# Altium schematic symbol library 5.1 - 接插件-脚距1.27.SchLib: 7 symbols
Pins are listed as number, name and electrical type; pins without a type are passive.

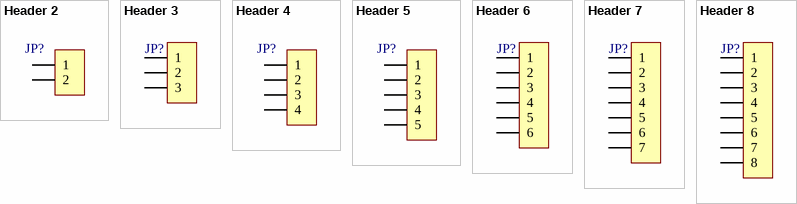
[diagram p0: symbols Header 2 to Header 8]

## Header 2
designator JP?, comment HDR-1X2  (value not drawn)
2P接插件; 封装库来自淘宝卖家 ID：黄晶宝石: 其他店铺购入均为盗版，不享受售后技术支持服务，请立即申请退款
footprint HDR1.27-LI-2P (直插，脚距：1.27mm)
footprint HDR1.27-M-LI-2P (直插，脚距：1.27mm)
pins: 1, 2

## Header 3
designator JP?, comment HDR-1X3  (value not drawn)
3P接插件; 封装库来自淘宝卖家 ID：黄晶宝石: 其他店铺购入均为盗版，不享受售后技术支持服务，请立即申请退款
footprint HDR1.27-LI-3P (直插，脚距：1.27mm)
footprint HDR1.27-M-LI-3P (直插，脚距：1.27mm)
pins: 1, 2, 3

## Header 4
designator JP?, comment HDR-1X4  (value not drawn)
4P接插件; 封装库来自淘宝卖家 ID：黄晶宝石: https://shop463601444.taobao.com
footprint HDR1.27-LI-4P (直插，脚距：1.27mm)
footprint HDR1.27-M-LI-4P (直插，脚距：1.27mm)
pins: 1, 2, 3, 4

## Header 5
designator JP?, comment HDR-1X5  (value not drawn)
5P接插件; 封装库来自淘宝卖家 ID：黄晶宝石: 技术支持，联系售后
footprint HDR1.27-LI-5P (直插，脚距：1.27mm)
footprint HDR1.27-M-LI-5P (直插，脚距：1.27mm)
pins: 1, 2, 3, 4, 5

## Header 6
designator JP?, comment HDR-1X6  (value not drawn)
6P接插件; 封装库来自淘宝卖家 ID：黄晶宝石: 其他店铺购入均为盗版，不享受售后技术支持服务，请立即申请退款
footprint HDR1.27-LI-6P (直插，脚距：1.27mm)
footprint HDR1.27-M-LI-6P (直插，脚距：1.27mm)
pins: 1, 2, 3, 4, 5, 6

## Header 7
designator JP?, comment HDR-1X7  (value not drawn)
7P接插件; 封装库来自淘宝卖家 ID：黄晶宝石: 其他店铺购入均为盗版，不享受售后技术支持服务，请立即申请退款
footprint HDR1.27-LI-7P (直插，脚距：1.27mm)
footprint HDR1.27-M-LI-7P (直插，脚距：1.27mm)
pins: 1, 2, 3, 4, 5, 6, 7

## Header 8
designator JP?, comment HDR-1X8  (value not drawn)
8P接插件; 封装库来自淘宝卖家 ID：黄晶宝石: https://shop463601444.taobao.com
footprint HDR1.27-LI-8P (直插，脚距：1.27mm)
footprint HDR1.27-M-LI-8P (直插，脚距：1.27mm)
pins: 1, 2, 3, 4, 5, 6, 7, 8